# EAGLE library part 12-PIN_TEST_HEADER (library powercube)
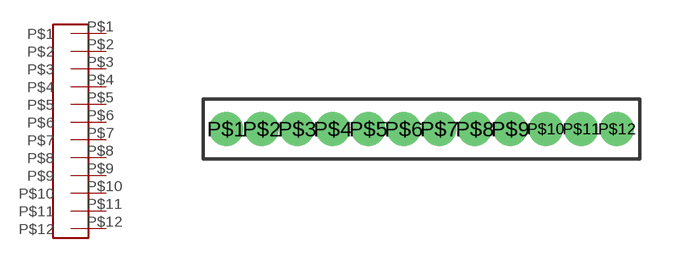
[diagram p14: symbol with the pads of 12-PIN_TEST_HEADER; footprint 12-PIN_TEST_HEADER]

Designator prefix -

## 12-PIN_TEST_HEADER  [12-PIN_TEST_HEADER]
P$1  P$1
P$2  P$2
P$3  P$3
P$4  P$4
P$5  P$5
P$6  P$6
P$7  P$7
P$8  P$8
P$9  P$9
P$10  P$10
P$11  P$11
P$12  P$12

## Footprint 12-PIN_TEST_HEADER (pad centres in mm)
drill 0.711 pad 1.067: P$1 -6.985,0; P$2 -5.715,0; P$3 -4.445,0; P$4 -3.175,0; P$5 -1.905,0; P$6 -0.635,0; P$7 0.635,0; P$8 1.905,0; P$9 3.175,0; P$10 4.445,0; P$11 5.715,0; P$12 6.985,0